# EAGLE library part OMNITESTERMEZZANINE (library boards)
Mezzanine card between the omnitester and the bed of nails.
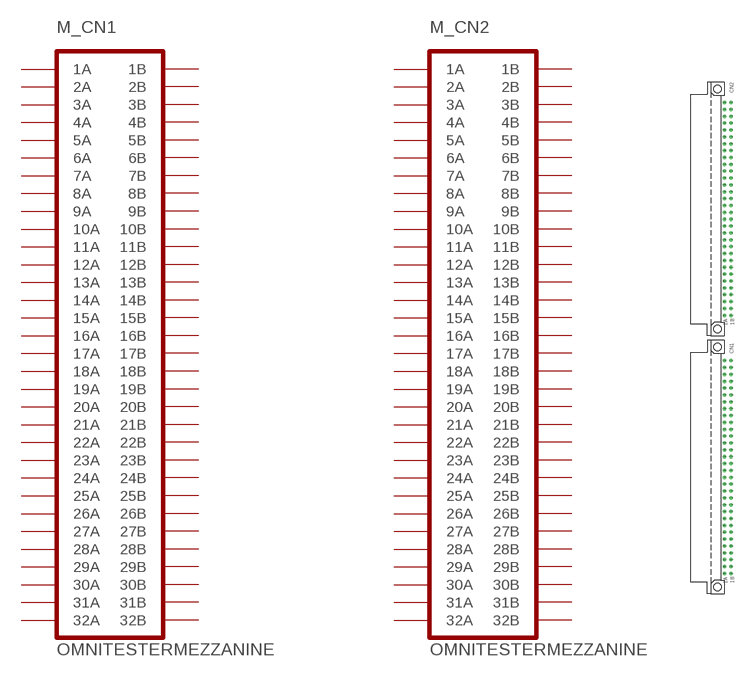
[diagram p0: symbol with the pads of OMNITESTER_MEZZANINE; footprint OMNITESTER_MEZZANINE]

Designator prefix M; gates _CN1=DIN41612_B64_MALE _CN2=DIN41612_B64_MALE

## OMNITESTERMEZZANINE  [OMNITESTER_MEZZANINE]
1A1  _CN2:1A
1A2  _CN1:1A
1B1  _CN2:1B
1B2  _CN1:1B
2A1  _CN2:2A
2A2  _CN1:2A
2B1  _CN2:2B
2B2  _CN1:2B
3A1  _CN2:3A
3A2  _CN1:3A
3B1  _CN2:3B
3B2  _CN1:3B
4A1  _CN2:4A
4A2  _CN1:4A
4B1  _CN2:4B
4B2  _CN1:4B
5A1  _CN2:5A
5A2  _CN1:5A
5B1  _CN2:5B
5B2  _CN1:5B
6A1  _CN2:6A
6A2  _CN1:6A
6B1  _CN2:6B
6B2  _CN1:6B
7A1  _CN2:7A
7A2  _CN1:7A
7B1  _CN2:7B
7B2  _CN1:7B
8A1  _CN2:8A
8A2  _CN1:8A
8B1  _CN2:8B
8B2  _CN1:8B
9A1  _CN2:9A
9A2  _CN1:9A
9B1  _CN2:9B
9B2  _CN1:9B
10A1  _CN2:10A
10A2  _CN1:10A
10B1  _CN2:10B
10B2  _CN1:10B
11A1  _CN2:11A
11A2  _CN1:11A
11B1  _CN2:11B
11B2  _CN1:11B
12A1  _CN2:12A
12A2  _CN1:12A
12B1  _CN2:12B
12B2  _CN1:12B
13A1  _CN2:13A
13A2  _CN1:13A
13B1  _CN2:13B
13B2  _CN1:13B
14A1  _CN2:14A
14A2  _CN1:14A
14B1  _CN2:14B
14B2  _CN1:14B
15A1  _CN2:15A
15A2  _CN1:15A
15B1  _CN2:15B
15B2  _CN1:15B
16A1  _CN2:16A
16A2  _CN1:16A
16B1  _CN2:16B
16B2  _CN1:16B
17A1  _CN2:17A
17A2  _CN1:17A
17B1  _CN2:17B
17B2  _CN1:17B
18A1  _CN2:18A
18A2  _CN1:18A
18B1  _CN2:18B
18B2  _CN1:18B
19A1  _CN2:19A
19A2  _CN1:19A
19B1  _CN2:19B
19B2  _CN1:19B
20A1  _CN2:20A
20A2  _CN1:20A
20B1  _CN2:20B
20B2  _CN1:20B
21A1  _CN2:21A
21A2  _CN1:21A
21B1  _CN2:21B
21B2  _CN1:21B
22A1  _CN2:22A
22A2  _CN1:22A
22B1  _CN2:22B
22B2  _CN1:22B
23A1  _CN2:23A
23A2  _CN1:23A
23B1  _CN2:23B
23B2  _CN1:23B
24A1  _CN2:24A
24A2  _CN1:24A
24B1  _CN2:24B
24B2  _CN1:24B
25A1  _CN2:25A
25A2  _CN1:25A
25B1  _CN2:25B
25B2  _CN1:25B
26A1  _CN2:26A
26A2  _CN1:26A
26B1  _CN2:26B
26B2  _CN1:26B
27A1  _CN2:27A
27A2  _CN1:27A
27B1  _CN2:27B
27B2  _CN1:27B
28A1  _CN2:28A
28A2  _CN1:28A
28B1  _CN2:28B
28B2  _CN1:28B
29A1  _CN2:29A
29A2  _CN1:29A
29B1  _CN2:29B
29B2  _CN1:29B
30A1  _CN2:30A
30A2  _CN1:30A
30B1  _CN2:30B
30B2  _CN1:30B
31A1  _CN2:31A
31A2  _CN1:31A
31B1  _CN2:31B
31B2  _CN1:31B
32A1  _CN2:32A
32A2  _CN1:32A
32B1  _CN2:32B
32B2  _CN1:32B

## Footprint OMNITESTER_MEZZANINE (pad centres in mm)
drill 0.8 octagon: 1A1 0.254,8.89; 1A2 0.254,-86.677; 1B1 2.794,8.89; 1B2 2.794,-86.677; 2A1 0.254,11.43; 2A2 0.254,-84.138; 2B1 2.794,11.43; 2B2 2.794,-84.138; 3A1 0.254,13.97; 3A2 0.254,-81.597; 3B1 2.794,13.97; 3B2 2.794,-81.597; 4A1 0.254,16.51; 4A2 0.254,-79.058; 4B1 2.794,16.51; 4B2 2.794,-79.058; 5A1 0.254,19.05; 5A2 0.254,-76.517; 5B1 2.794,19.05; 5B2 2.794,-76.517; 6A1 0.254,21.59; 6A2 0.254,-73.978; 6B1 2.794,21.59; 6B2 2.794,-73.978; 7A1 0.254,24.13; 7A2 0.254,-71.438; 7B1 2.794,24.13; 7B2 2.794,-71.438; 8A1 0.254,26.67; 8A2 0.254,-68.897; 8B1 2.794,26.67; 8B2 2.794,-68.897; 9A1 0.254,29.21; 9A2 0.254,-66.358; 9B1 2.794,29.21; 9B2 2.794,-66.358; 10A1 0.254,31.75; 10A2 0.254,-63.818; 10B1 2.794,31.75; 10B2 2.794,-63.818; 11A1 0.254,34.29; 11A2 0.254,-61.278; 11B1 2.794,34.29; 11B2 2.794,-61.278; 12A1 0.254,36.83; 12A2 0.254,-58.737; 12B1 2.794,36.83; 12B2 2.794,-58.737; 13A1 0.254,39.37; 13A2 0.254,-56.197; 13B1 2.794,39.37; 13B2 2.794,-56.197; 14A1 0.254,41.91; 14A2 0.254,-53.657; 14B1 2.794,41.91; 14B2 2.794,-53.657; 15A1 0.254,44.45; 15A2 0.254,-51.117; 15B1 2.794,44.45; 15B2 2.794,-51.117; 16A1 0.254,46.99; 16A2 0.254,-48.578; 16B1 2.794,46.99; 16B2 2.794,-48.578; 17A1 0.254,49.53; 17A2 0.254,-46.038; 17B1 2.794,49.53; 17B2 2.794,-46.038; 18A1 0.254,52.07; 18A2 0.254,-43.498; 18B1 2.794,52.07; 18B2 2.794,-43.498; 19A1 0.254,54.61; 19A2 0.254,-40.958; 19B1 2.794,54.61; 19B2 2.794,-40.958; 20A1 0.254,57.15; 20A2 0.254,-38.417; 20B1 2.794,57.15; 20B2 2.794,-38.417; 21A1 0.254,59.69; 21A2 0.254,-35.877; 21B1 2.794,59.69; 21B2 2.794,-35.877; 22A1 0.254,62.23; 22A2 0.254,-33.337; 22B1 2.794,62.23; 22B2 2.794,-33.337; 23A1 0.254,64.77; 23A2 0.254,-30.797; 23B1 2.794,64.77; 23B2 2.794,-30.797; 24A1 0.254,67.31; 24A2 0.254,-28.258; 24B1 2.794,67.31; 24B2 2.794,-28.258; 25A1 0.254,69.85; 25A2 0.254,-25.718; 25B1 2.794,69.85; 25B2 2.794,-25.718; 26A1 0.254,72.39; 26A2 0.254,-23.177; 26B1 2.794,72.39; 26B2 2.794,-23.177; 27A1 0.254,74.93; 27A2 0.254,-20.637; 27B1 2.794,74.93; 27B2 2.794,-20.637; 28A1 0.254,77.47; 28A2 0.254,-18.098; 28B1 2.794,77.47; 28B2 2.794,-18.098; 29A1 0.254,80.01; 29A2 0.254,-15.557; 29B1 2.794,80.01; 29B2 2.794,-15.557; 30A1 0.254,82.55; 30A2 0.254,-13.018; 30B1 2.794,82.55; 30B2 2.794,-13.018; 31A1 0.254,85.09; 31A2 0.254,-10.477; 31B1 2.794,85.09; 31B2 2.794,-10.477; 32A1 0.254,87.63; 32A2 0.254,-7.938; 32B1 2.794,87.63; 32B2 2.794,-7.938
hole 2.8 at -2.286,92.71
hole 2.8 at -2.286,3.81
hole 2.8 at -2.286,-2.857
hole 2.8 at -2.286,-91.757